# Altium footprint library Adafruit BNO055.PcbLib: 1 footprints
Each footprint in its own frame and in the unit in brackets; x right, y up, seen from the top. Pads: shape width x height; smd on the part's side, far side on the other; paste and mask are expansions set on the pad; w line width, h text height; cw(c..) or ccw(c..) is an arc to the next point about the centre after c.
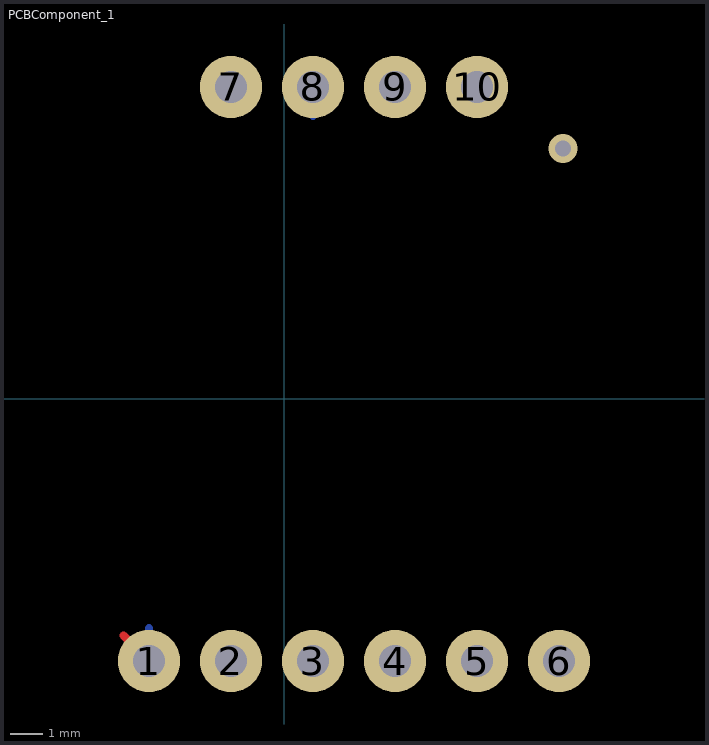
[diagram p0: the footprint, top view; thin cyan lines are the x and y axes]

## PCBComponent_1 [mil]
pads (10):
  round 76 hole 39.37: 1(-165,-320) 2(-65,-320) 3(35,-320) 4(135,-320) 5(235,-320) 6(335,-320) 7(-65,380) 8(35,380) 9(135,380) 10(235,380)
via 340,305 diameter 35.69 hole 19.69
Top Layer:
  lines w10: -196.18,-288.81 -165,-320 ; -65,-320 -65,-300 ; -65,347.4 -65,380
Bottom Layer:
  lines w10: -165,-320 -165,-280 ; -65,375 -65,380 ; 35,345 35,380 ; 125,380 135,380
Mechanical 3:
  region: 325,-330 325,-310 345,-310 345,-330
  region: -175,-330 -175,-310 -155,-310 -155,-330
  region: -75,-330 -75,-310 -55,-310 -55,-330
  region: 25,-330 25,-310 45,-310 45,-330
  region: 125,-330 125,-310 145,-310 145,-330
  region: 225,-330 225,-310 245,-310 245,-330
  region: 225,370 225,390 245,390 245,370
  region: -75,370 -75,390 -55,390 -55,370
  region: 25,370 25,390 45,390 45,370
  region: 125,370 125,390 145,390 145,370
Mechanical 7:
  text "Vin" at -198.75,-271.86 h27.2
  text "GND" at 0.28,-271.86 h27.2
  text "SDA" at 100.28,-271.86 h27.2
  text "SCL" at 200.28,-271.86 h27.2
  text "INT" at 103.77,305.03 h27.2
  text "RST" at 301.86,-271.86 h27.2
  text "PS1" at -0.19,303.14 h27.2
  text "3vo" at -103.65,-271.86 h27.2
  text "ADR" at 200.83,303.14 h27.2
  text "PS0" at -104.72,303.14 h27.2